# Altium footprint library PcbLib3.PcbLib: 2 footprints
Each footprint in its own frame and in the unit in brackets; x right, y up, seen from the top. Pads: shape width x height; smd on the part's side, far side on the other; paste and mask are expansions set on the pad; w line width, h text height; cw(c..) or ccw(c..) is an arc to the next point about the centre after c.
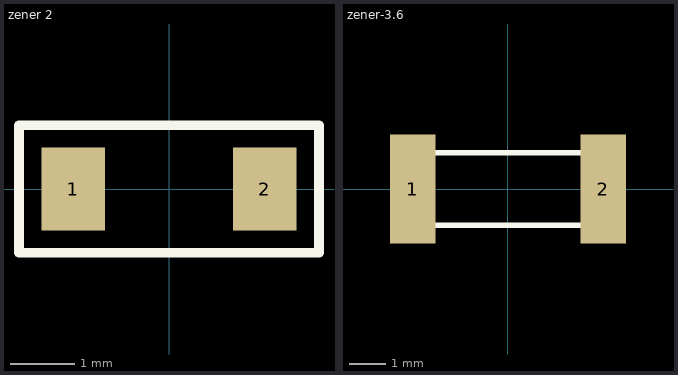
[diagram p0: the footprints below, top view; thin cyan lines are the x and y axes]

## zener 2 [mm]
height 0.051
pads (2):
  rect 1x1.3 smd: 1(-1.5,0) 2(1.5,0)
Top Overlay:
  lines w0.15: -2.35,-1 2.35,-1 2.35,1 -2.35,1 -2.35,0 -2.35,-1

## zener-3.6 [mm] "diode zener"
pads (2):
  rect 1.25x3 smd: 1(-2.625,0) 2(2.625,0)
Top Overlay:
  lines w0.15: -2.75,-1 -2.75,0 -2.75,1 2.75,1 2.75,-1 -2.75,-1